# Altium footprint library pcblib.PcbLib: 44 footprints (part 1 of 3)
Each footprint in its own frame and in the unit in brackets; x right, y up, seen from the top. Pads: shape width x height; smd on the part's side, far side on the other; paste and mask are expansions set on the pad; w line width, h text height; cw(c..) or ccw(c..) is an arc to the next point about the centre after c.
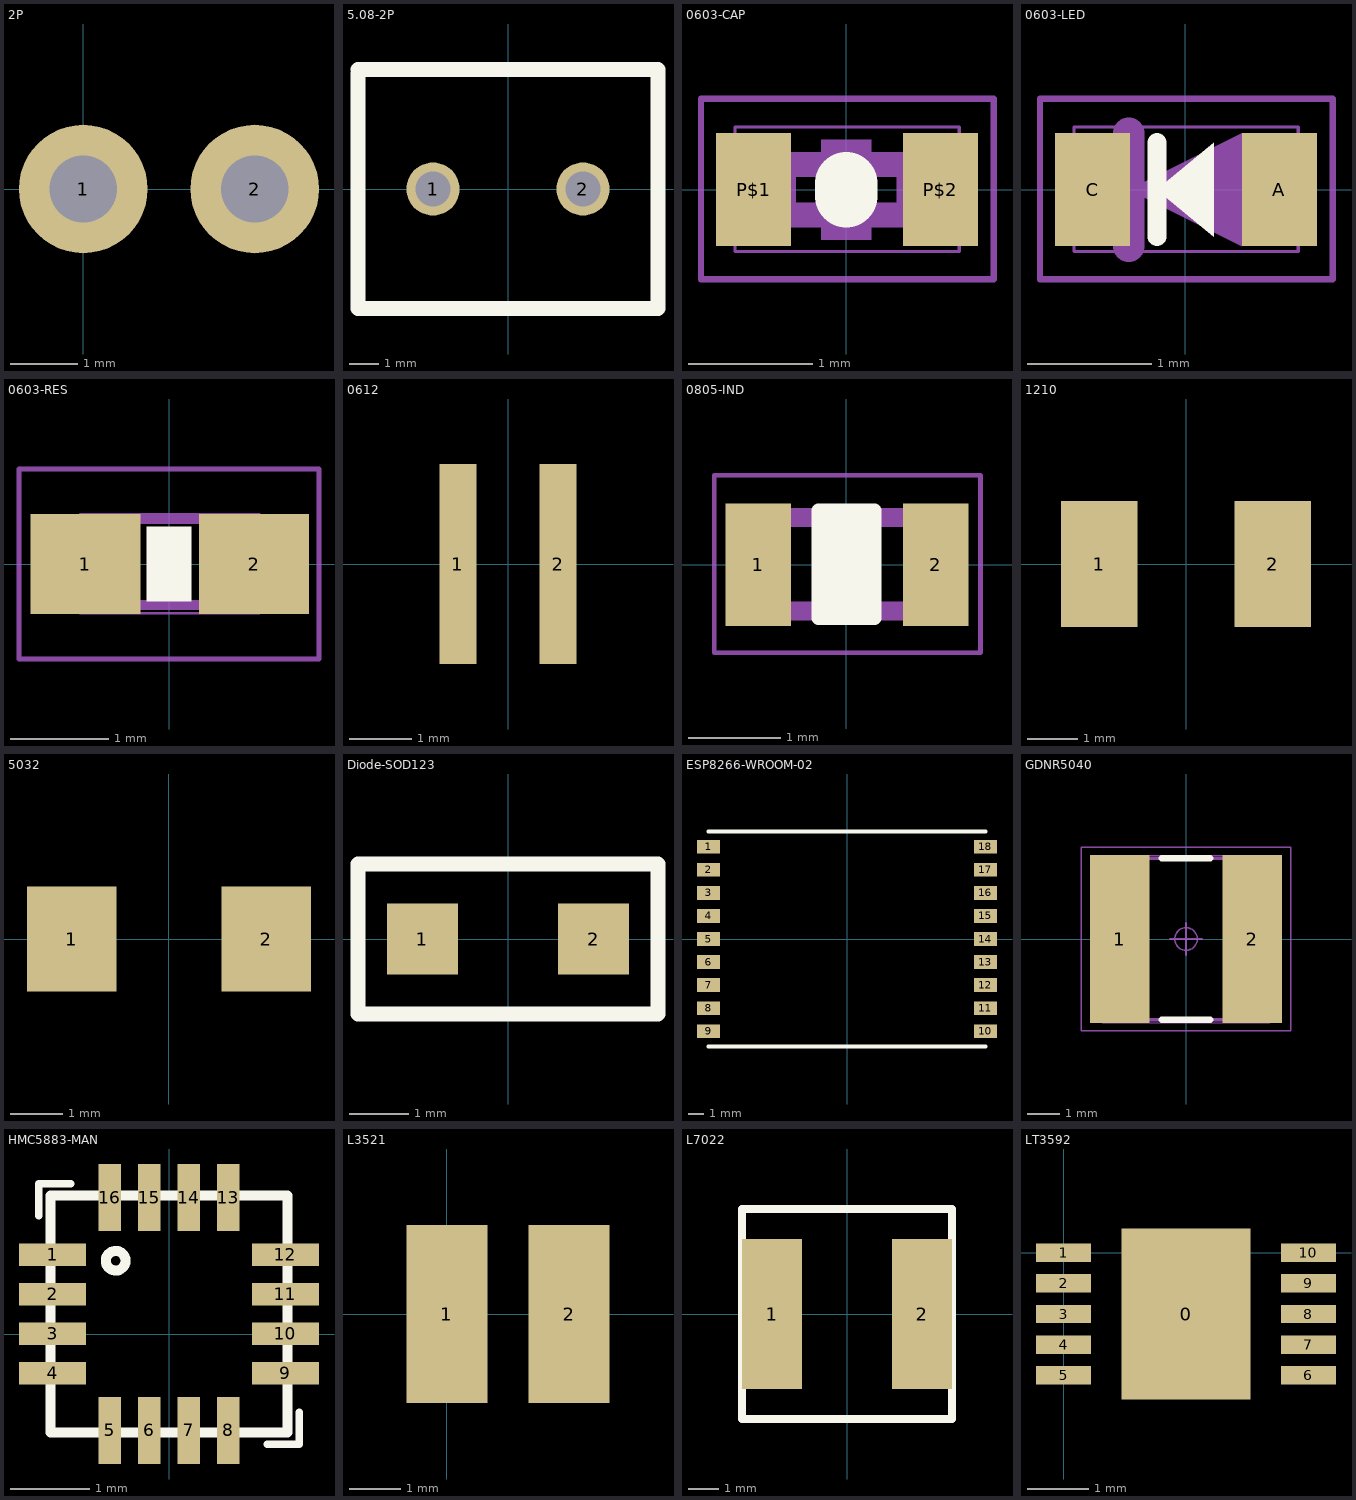
[diagram p0: the footprints below, top view; thin cyan lines are the x and y axes]

## 2P [mm]
pads (2):
  round 1.905 hole 1: 1(0,0) 2(2.54,0)

## 5.08-2P [mm]
pads (2):
  round 1.8 hole 1.2: 1(-2.54,0) 2(2.54,0)
Top Overlay:
  lines w0.5: -5.08,3.9 -5.08,-4.05 5.08,-4.05 5.08,4.05 -5.08,4.05

## 0603-CAP [mil] "0603-CAP"
pads (2):
  rect 24x36 smd: P$1(-29.53,0) P$2(30,0)
Top Overlay:
  lines w20: 0,-2 0,2
Mechanical 6:
  rectangle: -7.87,-11.81 8,12
  rectangle: -8,-16 8,16
Mechanical 16:
  rectangle: -28,-12 -16,12
  rectangle: 16,-12 28,12
  rectangle: 16,-12 28,12
  lines w1: -35.43,-19.68 36,-19.68 36,20 -35.43,20 -35.43,-19.68
  lines w2: -46.26,-28.54 47,-28.54 47,29 -46.26,29 -46.26,-28.54
  lines w8: -20,-8 20,-8 ; -20,8 20,8

## 0603-LED [mil] "0603-LED"
pads (2):
  rect 24x36 smd: A(30,0) C(-29.53,0)
Top Overlay:
  region: -9,0 9,15 9,-15
  lines w6: -9,-15 -9,15
Mechanical 16:
  region: -18,0 18,18 18,-18
  lines w1: -35.43,-19.68 36,-19.68 36,20 -35.43,20 -35.43,-19.68
  lines w2: -46.26,-28.54 47,-28.54 47,29 -46.26,29 -46.26,-28.54
  lines w10: -18,-18 -18,18

## 0603-RES [mil] "0603-RES"
pads (2):
  rect 44x40 smd: 1(-33.46,0) 2(34,0)
Top Overlay:
  rectangle: -9,-15 9,15
Mechanical 6:
  rectangle: -7.87,-11.81 8,12
Mechanical 16:
  rectangle: 13,-18.5 33,19
  rectangle: -33,-18.5 -13.31,19
  lines w1: -35.43,-19.68 -35.43,20 36,20 36,-19.68 -35.43,-19.68
  lines w2: -60,-38 -60,38 60,38 60,-38 -60,-38
  lines w4: -14.02,-16.5 15,-16.5 ; -14.02,18 15,18

## 0612 [mm]
pads (2):
  rect 0.6x3.2 smd: 1(-0.8,0) 2(0.8,0)
3D body: height 0.5, standoff 0, extent -0.8,-1.6 0.8,1.6

## 0805-IND [mil] "0805-IND"
pads (2):
  rect 28x52 smd: 1(-37.4,0) 2(38,0)
Top Overlay:
  rectangle: -11.76,-22.59 12,23
  lines w6: -11.76,-22.59 12,-22.59 12,23 -11.76,23 -11.76,-22.59
Mechanical 16:
  rectangle: 24,-23.67 40,24
  rectangle: -39.37,-23.67 -23.62,24
  lines w2: -56.1,-37.4 -56.1,38 57,38 57,-37.4 -56.1,-37.4
  lines w8: -23.62,-19.68 24,-19.68 ; -23.62,20 24,20

## 1210 [mm]
pads (2):
  rect 1.52x2.5 smd: 1(-1.715,0) 2(1.715,0)

## 5032 [mm]
pads (2):
  rect 1.7x2 smd: 1(-1.85,0) 2(1.85,0)

## Diode-SOD123 [mm]
pads (2):
  rect 1.2x1.2 smd: 1(-1.45,0) 2(1.45,0)
Top Overlay:
  lines w0.254: -2.54,-1.27 -2.54,1.27 2.54,1.27 2.54,-1.27 -2.54,-1.27

## ESP8266-WROOM-02 [mm]
pads (18):
  rect 1.5x0.9 smd: 1(-9,6) 2(-9,4.5) 3(-9,3) 4(-9,1.5) 5(-9,0) 6(-9,-1.5) 7(-9,-3) 8(-9,-4.5) 9(-9,-6) 10(9,-6) 11(9,-4.5) 12(9,-3) 13(9,-1.5) 14(9,0) 15(9,1.5) 16(9,3) 17(9,4.5) 18(9,6)
Top Overlay:
  lines w0.254: -9,-7 9,-7 ; -9,7 9,7

## GDNR5040 [mm]
pads (2):
  rect 1.85x5.2 smd: 1(-2.05,0) 2(2.05,0)
Top Overlay:
  lines w0.2: -0.75,-2.5 0.75,-2.5 ; -0.75,2.5 0.75,2.5
Mechanical 15:
  lines w0.1: -2.5,-2.5 -2.5,2.5 2.5,2.5 2.5,-2.5 -2.5,-2.5
Mechanical 16:
  circle w0.05: c0,0 r0.35
  lines w0.001: -2.6,-2.6 -2.6,2.6 2.6,2.6 2.6,-2.6 -2.6,-2.6
  lines w0.05: -0.5,0 0.5,0 ; 0,-0.5 0,0.5 ; -3.25,-2.85 3.25,-2.85 3.25,2.85 -3.25,2.85 -3.25,-2.85

## HMC5883-MAN [mm]
pads (16):
  rect 0.85x0.285 smd: 1(-1.475,1.004) 2(-1.475,0.504) 3(-1.475,0.004) 4(-1.475,-0.496) 9(1.475,-0.496) 10(1.475,0.004) 11(1.475,0.504) 12(1.475,1.004)
  rect 0.285x0.85 smd: 5(-0.75,-1.221) 6(-0.25,-1.221) 7(0.25,-1.221) 8(0.75,-1.221) 13(0.75,1.729) 14(0.25,1.729) 15(-0.25,1.729) 16(-0.75,1.729)
Top Overlay:
  circle w0.127: c-0.675,0.929 r0.125
  lines w0.1: -1.65,1.504 -1.65,1.904 -1.25,1.904 ; 1.25,-1.396 1.65,-1.396 1.65,-0.996
  lines w0.127: -1.5,-1.246 -1.5,1.754 1.5,1.754 1.5,-1.246 -1.5,-1.246

## L3521 [mm]
pads (2):
  rect 1.6x3.5 smd: 1(0,0) 2(2.4,0)

## L7022 [mm]
pads (2):
  rect 2x5 smd: 1(-2.5,0) 2(2.5,0)
Top Overlay:
  lines w0.254: -3.5,-3.5 3.5,-3.5 3.5,3.5 -3.5,3.5 -3.5,-3.5

## LT3592 [mm]
pads (11):
  rect 2.1x2.8 smd: 0(2,-1)
  rect 0.9x0.3 smd: 1(0,0) 2(0,-0.5) 3(0,-1) 4(0,-1.5) 5(0,-2) 6(4,-2) 7(4,-1.5) 8(4,-1) 9(4,-0.5) 10(4,0)